# EAGLE library part 7SEG_X1_65X86 (library displays)
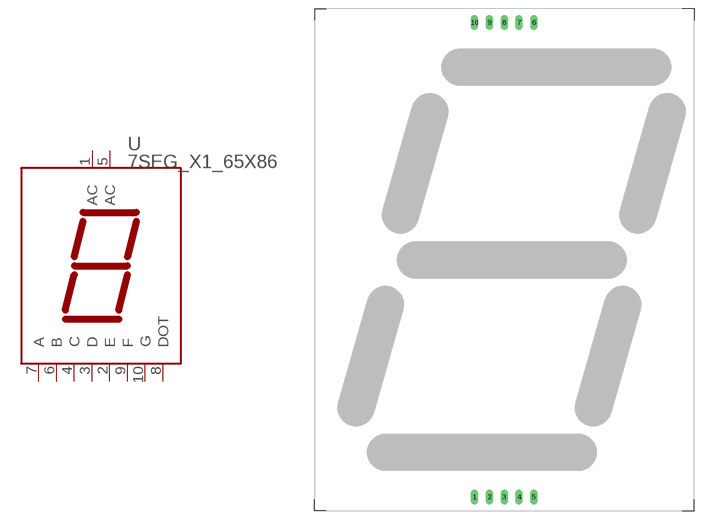
[diagram p0: symbol with the pads of 7SEG_X1_65X86; footprint 7SEG_X1_65X86]

Designator prefix -

## 7SEG_X1_65X86  [7SEG_X1_65X86]
1  AC
2  E
3  D
4  C
5  AC
6  B
7  A
8  DOT
9  F
10  G

## Footprint 7SEG_X1_65X86 (pad centres in mm)
drill 0.8 long: 1 -5.08,-40.64; 2 -2.54,-40.64; 3 0,-40.64; 4 2.54,-40.64; 5 5.08,-40.64; 6 5.08,40.64; 7 2.54,40.64; 8 0,40.64; 9 -2.54,40.64; 10 -5.08,40.64